# Altium schematic symbol library PT_2PIN_3.5mm.SchLib: 1 symbol
Pins are listed as number, name and electrical type; pins without a type are passive.

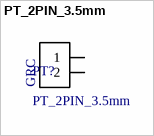
[diagram p0: symbol PT_2PIN_3.5mm]

## PT_2PIN_3.5mm
designator PT?
footprint PT_2PIN_3.5mm
pins: 1, 2
text: GRC